# Altium schematic symbol library Mean Well MDS06.SchLib: 1 symbol
Pins are listed as number, name and electrical type; pins without a type are passive.

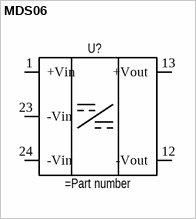
[diagram p0: symbol MDS06]

## MDS06
designator U?
6W DIP Package DC-DC Medical Grade Regulated Converter
pins: 1 +Vin, 12 -Vout, 13 +Vout, 23 -Vin, 24 -Vin